# Altium footprint library PCB Lib.PcbLib: 31 footprints (part 2 of 2)
Each footprint in its own frame and in the unit in brackets; x right, y up, seen from the top. Pads: shape width x height; smd on the part's side, far side on the other; paste and mask are expansions set on the pad; w line width, h text height; cw(c..) or ccw(c..) is an arc to the next point about the centre after c.
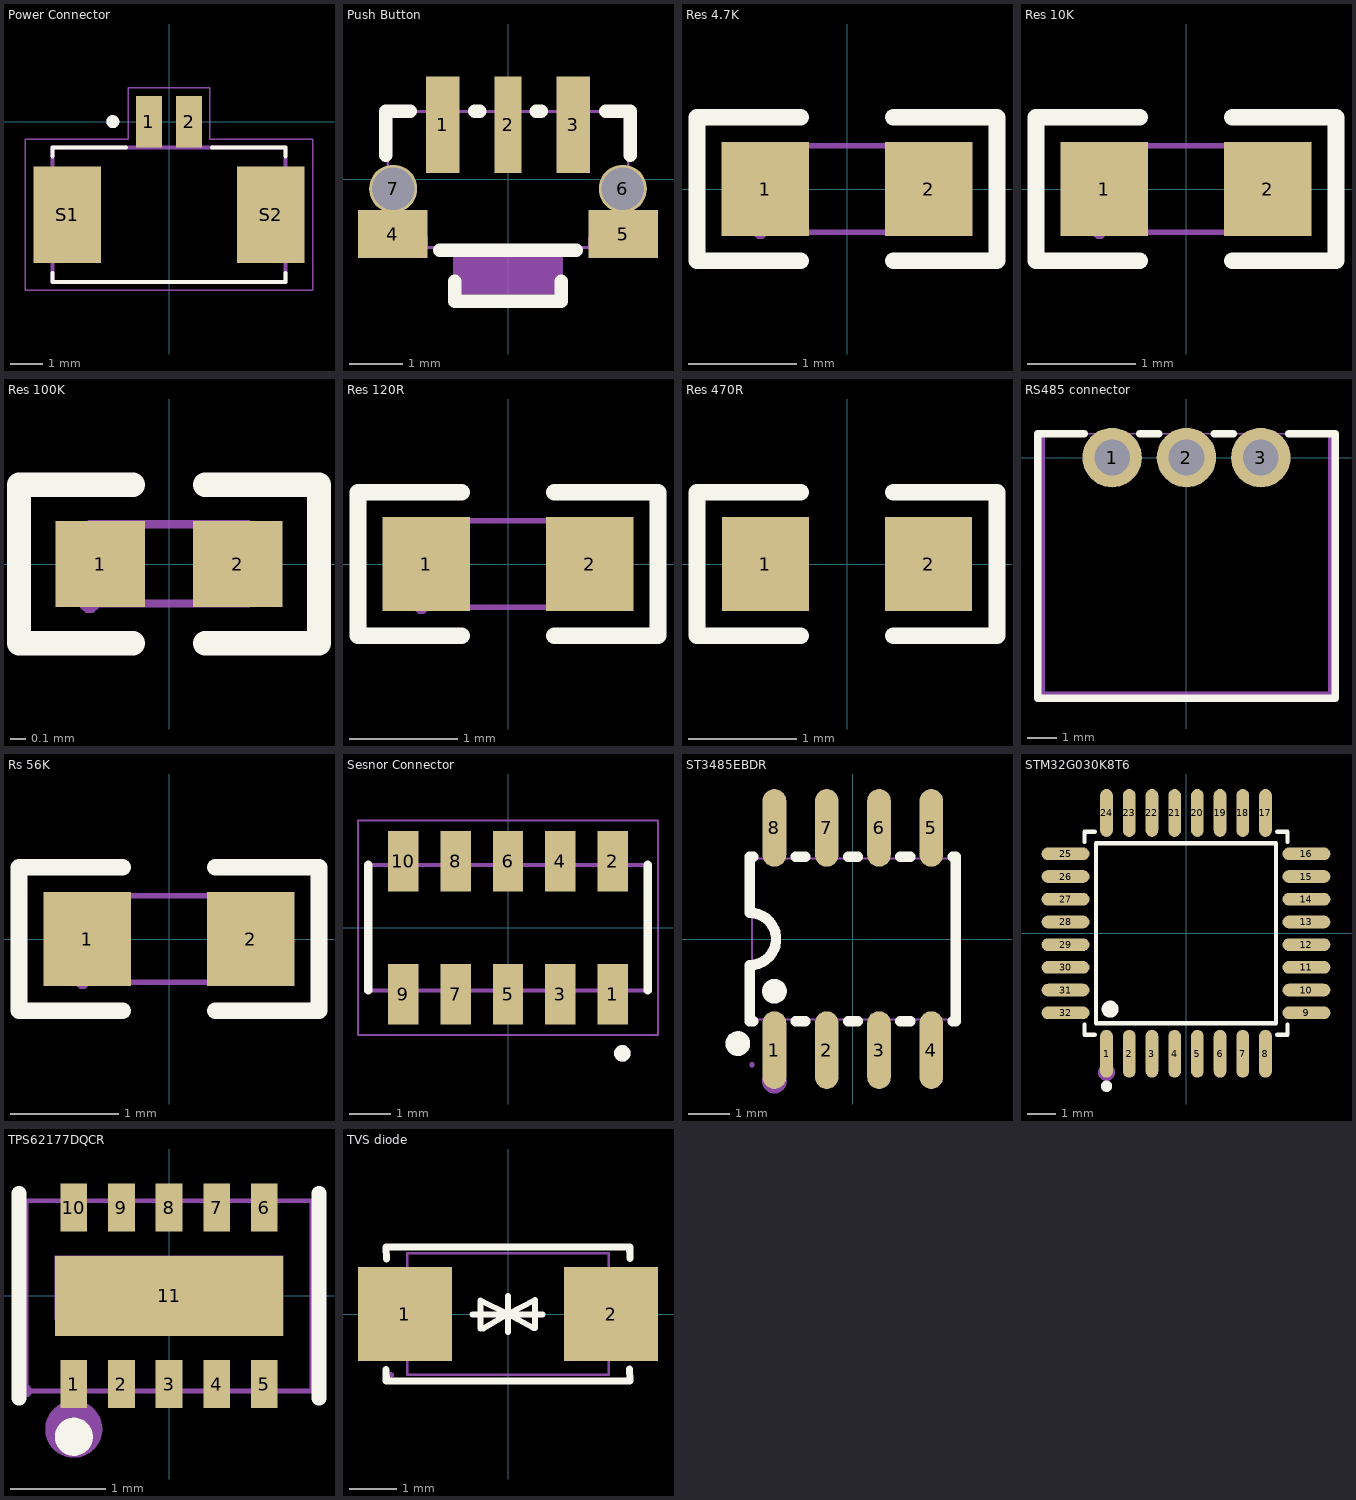
[diagram p1: the footprints below, top view; thin cyan lines are the x and y axes]

## PCBComponent_1 [mm]

## Power Connector [mm]
height 3.4
pads (4):
  rect 0.8x1.6 smd: 1(-0.625,0) 2(0.625,0)
  rect 2.1x3 smd: S1(-3.175,-2.9) S2(3.175,-2.9)
Top Overlay:
  circle w0.2: c-1.75,0 r0.1
  lines w0.127: -3.625,-4.72 -3.625,-5 3.625,-5 3.625,-4.72 ; -3.625,-1.08 -3.625,-0.8 -1.345,-0.8 ; 1.345,-0.8 3.625,-0.8 3.625,-1.08
Mechanical 13:
  circle w0.2: c-1.75,0 r0.1
  lines w0.127: -3.625,-5 -3.625,-0.8 3.625,-0.8 3.625,-5 -3.625,-5
Mechanical 15:
  lines w0.05: -4.475,-5.25 -4.475,-0.55 -1.275,-0.55 -1.275,1.05 1.275,1.05 1.275,-0.55 4.475,-0.55 4.475,-5.25 -4.475,-5.25
3D body "Power connector.STEP": height 3.4, standoff 0, extent -3.825,-4.674 3.825,0.526

## Push Button [mm]
pads (7):
  rect 0.625x1.8 smd paste-100 mask+0.051: 1(-1.225,1.025) 3(1.225,1.025)
  rect 0.5x1.8 smd paste-100 mask+0.051: 2(0,1.025)
  rect 1.3x0.9 smd paste-100 mask+0.051: 4(-2.159,-1.025) 5(2.159,-1.025)
  round 0.9 hole 0.8 paste-2539.97 mask+0.05: 6(2.15,-0.175) 7(-2.15,-0.175)
Top Overlay:
  lines w0.254: -2.286,0.453 -2.286,1.274 -1.831,1.274 ; -1.278,-1.325 -1.231,-1.325 1.231,-1.325 1.278,-1.325 ; -1,-1.906 -1,-2.282 1,-2.282 1,-1.906 ; -0.619,1.274 -0.531,1.274 ; 0.531,1.274 0.619,1.274 ; 1.831,1.274 2.286,1.274 2.286,0.453
Top Paste:
  drawing of 5 lines, arcs and shapes, not listed
Mechanical 6:
  region: -1,-1.35 -1,-2.15 1,-2.15 1,-1.35
Mechanical 15:
  region: -2.19,1.325 -2.19,1.35 -2.225,1.385 -2.275,1.385 -2.31,1.35 -2.31,1.325 -2.31,1.3 -2.275,1.265 -2.225,1.265 -2.19,1.3
  region: -1.525,1.325 -0.925,1.325 -0.925,0.125 -1.525,0.125
  region: 0.925,1.325 1.525,1.325 1.525,0.125 0.925,0.125
  region: -0.225,1.325 0.225,1.325 0.225,0.125 -0.225,0.125
  region: -2.25,-1.076 -1.5,-1.076 -1.5,-1.276 -2.25,-1.276
  region: 1.5,-1.076 2.25,-1.076 2.25,-1.276 1.5,-1.276
  region: -2.25,0.175 -2.05,0.175 -2.05,-0.525 -2.25,-0.525
  region: 2.05,0.175 2.25,0.175 2.25,-0.525 2.05,-0.525
  lines w0.051: -2.25,-1.276 -2.25,1.274 2.25,1.274 2.25,-1.276 1,-1.276 1,-2.126 -1,-2.126 -1,-1.276 -2.25,-1.276

## Res 4.7K [mm]
pads (2):
  rect 0.806x0.864 smd paste-100 mask+0.051: 1(-0.753,0) 2(0.753,0)
Top Overlay:
  lines w0.152: -0.426,-0.661 -1.385,-0.661 -1.385,0.661 -0.426,0.661 ; 0.426,-0.661 1.385,-0.661 1.385,0.661 0.426,0.661
Top Paste:
  region: -1.195,-0.45 -0.395,-0.45 -0.345,-0.4 -0.345,-0.172 -0.715,-0.172 -0.715,0.158 -0.345,0.158 -0.345,0.4 -0.395,0.45 -1.195,0.45 -1.245,0.4 -1.245,-0.4
  region: 1.195,0.45 0.395,0.45 0.345,0.4 0.345,0.172 0.715,0.172 0.715,-0.158 0.345,-0.158 0.345,-0.4 0.395,-0.45 1.195,-0.45 1.245,-0.4 1.245,0.4
Mechanical 15:
  region: 0.8,-0.4 0.8,0.4 0.5,0.4 0.5,-0.4
  region: -0.8,-0.4 -0.8,0.4 -0.5,0.4 -0.5,-0.4
  region: -0.74,-0.4 -0.74,-0.375 -0.775,-0.34 -0.825,-0.34 -0.86,-0.375 -0.86,-0.4 -0.86,-0.425 -0.825,-0.46 -0.775,-0.46 -0.74,-0.425
  lines w0.051: -0.8,-0.4 0.8,-0.4 0.8,0.4 -0.8,0.4 -0.8,-0.4
3D body "R603.STEP": height 0.45, standoff 0, extent -0.775,-0.4 0.825,0.4

## Res 10K [mm]
pads (2):
  rect 0.806x0.864 smd paste-100 mask+0.051: 1(-0.753,0) 2(0.753,0)
Top Overlay:
  lines w0.152: -0.426,-0.661 -1.385,-0.661 -1.385,0.661 -0.426,0.661 ; 0.426,-0.661 1.385,-0.661 1.385,0.661 0.426,0.661
Top Paste:
  region: 1.195,0.45 0.395,0.45 0.345,0.4 0.345,0.172 0.715,0.172 0.715,-0.158 0.345,-0.158 0.345,-0.4 0.395,-0.45 1.195,-0.45 1.245,-0.4 1.245,0.4
  region: -1.195,-0.45 -0.395,-0.45 -0.345,-0.4 -0.345,-0.172 -0.715,-0.172 -0.715,0.158 -0.345,0.158 -0.345,0.4 -0.395,0.45 -1.195,0.45 -1.245,0.4 -1.245,-0.4
Mechanical 15:
  region: -0.74,-0.4 -0.74,-0.375 -0.775,-0.34 -0.825,-0.34 -0.86,-0.375 -0.86,-0.4 -0.86,-0.425 -0.825,-0.46 -0.775,-0.46 -0.74,-0.425
  region: -0.8,-0.4 -0.8,0.4 -0.5,0.4 -0.5,-0.4
  region: 0.8,-0.4 0.8,0.4 0.5,0.4 0.5,-0.4
  lines w0.051: -0.8,-0.4 -0.8,0.4 0.8,0.4 0.8,-0.4 -0.8,-0.4
3D body "R603.STEP": height 0.45, standoff 0, extent -0.775,-0.4 0.825,0.4

## Res 100K [mm]
pads (2):
  rect 0.566x0.54 smd paste-100 mask+0.051: 1(-0.433,0) 2(0.433,0)
Top Overlay:
  lines w0.152: -0.226,-0.499 -0.944,-0.499 -0.944,0.499 -0.226,0.499 ; 0.226,-0.499 0.944,-0.499 0.944,0.499 0.226,0.499
Top Paste:
  region: -0.135,-0.23 -0.135,0.23 -0.175,0.27 -0.676,0.27 -0.716,0.23 -0.716,-0.23 -0.676,-0.27 -0.175,-0.27
  region: 0.135,-0.23 0.135,0.23 0.175,0.27 0.676,0.27 0.716,0.23 0.716,-0.23 0.676,-0.27 0.175,-0.27
Mechanical 15:
  region: -0.249,0.25 -0.249,-0.25 -0.499,-0.25 -0.499,0.25
  region: 0.251,-0.25 0.251,0.25 0.501,0.25 0.501,-0.25
  region: -0.44,-0.25 -0.441,-0.226 -0.476,-0.192 -0.524,-0.192 -0.559,-0.226 -0.56,-0.25 -0.559,-0.274 -0.524,-0.308 -0.476,-0.308 -0.441,-0.274
  lines w0.051: -0.5,-0.25 0.5,-0.25 0.5,0.25 -0.5,0.25 -0.5,-0.25
3D body "R402.STEP": height 0.35, standoff 0, extent -0.5,-0.25 0.5,0.25

## Res 120R [mm]
pads (2):
  rect 0.806x0.864 smd paste-100 mask+0.051: 1(-0.753,0) 2(0.753,0)
Top Overlay:
  lines w0.152: -0.426,-0.661 -1.385,-0.661 -1.385,0.661 -0.426,0.661 ; 0.426,-0.661 1.385,-0.661 1.385,0.661 0.426,0.661
Top Paste:
  region: 1.195,0.45 0.395,0.45 0.345,0.4 0.345,0.172 0.715,0.172 0.715,-0.158 0.345,-0.158 0.345,-0.4 0.395,-0.45 1.195,-0.45 1.245,-0.4 1.245,0.4
  region: -1.195,-0.45 -0.395,-0.45 -0.345,-0.4 -0.345,-0.172 -0.715,-0.172 -0.715,0.158 -0.345,0.158 -0.345,0.4 -0.395,0.45 -1.195,0.45 -1.245,0.4 -1.245,-0.4
Mechanical 15:
  region: -0.74,-0.4 -0.74,-0.375 -0.775,-0.34 -0.825,-0.34 -0.86,-0.375 -0.86,-0.4 -0.86,-0.425 -0.825,-0.46 -0.775,-0.46 -0.74,-0.425
  region: -0.8,-0.4 -0.8,0.4 -0.5,0.4 -0.5,-0.4
  region: 0.8,-0.4 0.8,0.4 0.5,0.4 0.5,-0.4
  lines w0.051: -0.8,-0.4 -0.8,0.4 0.8,0.4 0.8,-0.4 -0.8,-0.4
3D body "R603.STEP": height 0.45, standoff 0, extent -0.775,-0.4 0.825,0.4

## Res 470R [mm]
pads (2):
  rect 0.806x0.864 smd paste-100 mask+0.051: 1(-0.753,0) 2(0.753,0)
Top Overlay:
  lines w0.152: -0.426,-0.661 -1.385,-0.661 -1.385,0.661 -0.426,0.661 ; 0.426,-0.661 1.385,-0.661 1.385,0.661 0.426,0.661
Top Paste:
  region: 1.195,0.45 0.395,0.45 0.345,0.4 0.345,0.172 0.715,0.172 0.715,-0.158 0.345,-0.158 0.345,-0.4 0.395,-0.45 1.195,-0.45 1.245,-0.4 1.245,0.4
  region: -1.195,-0.45 -0.395,-0.45 -0.345,-0.4 -0.345,-0.172 -0.715,-0.172 -0.715,0.158 -0.345,0.158 -0.345,0.4 -0.395,0.45 -1.195,0.45 -1.245,0.4 -1.245,-0.4
3D body "R603.STEP": height 0.45, standoff 0, extent -0.775,-0.4 0.825,0.4

## RS485 connector [mm]
pads (3):
  round 2 hole 1.2: 1(-2.5,0) 2(0,0) 3(2.5,0)
Top Overlay:
  lines w0.254: -4.999,0.78 -4.999,-8.1 2.501,-8.1 5,-8.1 5,0.8 3.435,0.8 ; -5,0.8 -3.435,0.8 ; -1.565,0.8 -0.935,0.8 ; 0.935,0.8 1.565,0.8
Mechanical 6:
  region: -4.773,0.7 -4.773,-7.873 4.773,-7.873 4.773,0.7 4.773,0.753 4.847,0.827 4.953,0.827 5.027,0.753 5.027,0.7 5.027,-8 5.027,-8.025 5.008,-8.072 4.972,-8.108 4.925,-8.127 4.9,-8.127 -4.9,-8.127 -4.925,-8.127 -4.972,-8.108 -5.008,-8.072 -5.027,-8.025 -5.027,-8 -5.027,0.7 -5.027,0.753 -4.953,0.827 -4.847,0.827 -4.773,0.753
Mechanical 15:
  region: -4.94,-8.1 -4.94,-8.075 -4.975,-8.04 -5.025,-8.04 -5.06,-8.075 -5.06,-8.1 -5.06,-8.125 -5.025,-8.16 -4.975,-8.16 -4.94,-8.125
  region: -2.9,0.4 -2.1,0.4 -2.1,-0.4 -2.9,-0.4
  region: -0.4,0.4 0.4,0.4 0.4,-0.4 -0.4,-0.4
  region: 2.1,0.4 2.9,0.4 2.9,-0.4 2.1,-0.4
  lines w0.051: -5,-8.1 -5,0.8 5,0.8 5,-8.1 -5,-8.1
3D body "RS485 Connector.stp": height 3, standoff -4.85, extent -3.785,-9.862 3.835,0.362

## Rs 56K [mm]
pads (2):
  rect 0.806x0.864 smd paste-100 mask+0.051: 1(-0.753,0) 2(0.753,0)
Top Overlay:
  lines w0.152: -0.426,-0.661 -1.385,-0.661 -1.385,0.661 -0.426,0.661 ; 0.426,-0.661 1.385,-0.661 1.385,0.661 0.426,0.661
Top Paste:
  region: 1.195,0.45 0.395,0.45 0.345,0.4 0.345,0.172 0.715,0.172 0.715,-0.158 0.345,-0.158 0.345,-0.4 0.395,-0.45 1.195,-0.45 1.245,-0.4 1.245,0.4
  region: -1.195,-0.45 -0.395,-0.45 -0.345,-0.4 -0.345,-0.172 -0.715,-0.172 -0.715,0.158 -0.345,0.158 -0.345,0.4 -0.395,0.45 -1.195,0.45 -1.245,0.4 -1.245,-0.4
Mechanical 15:
  region: -0.74,-0.4 -0.74,-0.375 -0.775,-0.34 -0.825,-0.34 -0.86,-0.375 -0.86,-0.4 -0.86,-0.425 -0.825,-0.46 -0.775,-0.46 -0.74,-0.425
  region: -0.8,-0.4 -0.8,0.4 -0.5,0.4 -0.5,-0.4
  region: 0.8,-0.4 0.8,0.4 0.5,0.4 0.5,-0.4
  lines w0.051: -0.8,-0.4 -0.8,0.4 0.8,0.4 0.8,-0.4 -0.8,-0.4
3D body "R603.STEP": height 0.45, standoff 0, extent -0.775,-0.4 0.825,0.4

## Sesnor Connector [mm]
pads (10):
  rect 0.74x1.47 smd: 1(2.54,-1.615) 2(2.54,1.615) 3(1.27,-1.615) 4(1.27,1.615) 5(0,-1.615) 6(0,1.615) 7(-1.27,-1.615) 8(-1.27,1.615) 9(-2.54,-1.615) 10(-2.54,1.615)
Top Overlay:
  circle w0.2: c2.775,-3.05 r0.1
  lines w0.2: -3.39,-1.525 -3.39,1.525 ; 3.39,-1.525 3.39,1.525
Mechanical 13:
  circle w0.2: c2.775,-3.05 r0.1
  lines w0.1: -3.39,-1.525 -3.39,1.525 3.39,1.525 3.39,-1.525 -3.39,-1.525
Mechanical 15:
  lines w0.05: -3.64,-2.6 -3.64,2.6 3.64,2.6 3.64,-2.6 -3.64,-2.6
3D body "Sensor Connector .stp": height 2.29, standoff 0, extent -3.391,-2.134 3.391,2.184

## ST3485EBDR [mm]
pads (8):
  oval 0.574x1.888 smd: 1(-1.905,-2.699) 2(-0.635,-2.699) 3(0.635,-2.699) 4(1.905,-2.699) 5(1.905,2.699) 6(0.635,2.699) 7(-0.635,2.699) 8(-1.905,2.699)
Top Overlay:
  circle w0.3: c-1.905,-1.27 r0.15
  circle w0.3: c-2.794,-2.54 r0.15
  lines w0.254: -2.421,-2 -2.5,-2 -2.5,-0.635 ccw(c-2.5,0) -2.499,0.635 -2.5,2 -2.421,2 ; -1.389,-2 -1.151,-2 ; -1.389,2 -1.151,2 ; -0.119,-2 0.119,-2 ; -0.119,2 0.119,2 ; 1.151,-2 1.389,-2 ; 1.151,2 1.389,2 ; 2.421,-2 2.5,-2 2.5,2 2.421,2
Mechanical 6:
  circle w0.3: c-1.905,-3.45 r0.15
Mechanical 15:
  region: -2.39,-3.05 -2.39,-3.025 -2.425,-2.99 -2.475,-2.99 -2.51,-3.025 -2.51,-3.05 -2.51,-3.075 -2.475,-3.11 -2.425,-3.11 -2.39,-3.075
  region: -2.11,-3.05 -2.11,-2.54 -1.7,-2.54 -1.7,-3.05
  region: -2.11,-2.55 -2.11,-1.945 -1.7,-1.945 -1.7,-2.55
  region: -0.84,-3.05 -0.84,-2.54 -0.43,-2.54 -0.43,-3.05
  region: -0.84,-2.55 -0.84,-1.945 -0.43,-1.945 -0.43,-2.55
  region: 0.43,-3.05 0.43,-2.54 0.84,-2.54 0.84,-3.05
  region: 0.43,-2.55 0.43,-1.945 0.84,-1.945 0.84,-2.55
  region: 1.7,-3.05 1.7,-2.54 2.11,-2.54 2.11,-3.05
  region: 1.7,-2.55 1.7,-1.945 2.11,-1.945 2.11,-2.55
  region: -2.11,3.05 -2.11,2.54 -1.7,2.54 -1.7,3.05
  region: -2.11,2.55 -2.11,1.945 -1.7,1.945 -1.7,2.55
  region: -0.84,3.05 -0.84,2.54 -0.43,2.54 -0.43,3.05
  region: -0.84,2.55 -0.84,1.945 -0.43,1.945 -0.43,2.55
  region: 0.43,3.05 0.43,2.54 0.84,2.54 0.84,3.05
  region: 0.43,2.55 0.43,1.945 0.84,1.945 0.84,2.55
  region: 1.7,3.05 1.7,2.54 2.11,2.54 2.11,3.05
  region: 1.7,2.55 1.7,1.945 2.11,1.945 2.11,2.55
  lines w0.051: -2.45,-1.955 -2.45,1.955 2.45,1.955 2.45,-1.955 -2.45,-1.955
3D body "ST3485EBDR.STEP": height 1.75, standoff 0, extent -2.45,-3 2.45,3

## STM32G030K8T6 [mm]
pads (32):
  oval 0.448x1.684 smd paste+0 mask+0.051: 1(-2.8,-4.242) 2(-2,-4.242) 3(-1.2,-4.242) 4(-0.4,-4.242) 5(0.4,-4.242) 6(1.2,-4.242) 7(2,-4.242) 8(2.8,-4.242) 17(2.8,4.242) 18(2,4.242) 19(1.2,4.242) 20(0.4,4.242) 21(-0.4,4.242) 22(-1.2,4.242) 23(-2,4.242) 24(-2.8,4.242)
  oval 1.684x0.448 smd paste+0 mask+0.051: 9(4.242,-2.8) 10(4.242,-2) 11(4.242,-1.2) 12(4.242,-0.4) 13(4.242,0.4) 14(4.242,1.2) 15(4.242,2) 16(4.242,2.8) 25(-4.242,2.8) 26(-4.242,2) 27(-4.242,1.2) 28(-4.242,0.4) 29(-4.242,-0.4) 30(-4.242,-1.2) 31(-4.242,-2) 32(-4.242,-2.8)
Top Overlay:
  circle w0.2: c-2.8,-5.384 r0.1
  circle w0.3: c-2.671,-2.671 r0.15
  lines w0.152: -3.576,-3.214 -3.576,-3.576 -3.214,-3.576 ; -3.576,3.214 -3.576,3.576 -3.214,3.576 ; 3.214,-3.576 3.576,-3.576 3.576,-3.214 ; 3.214,3.576 3.576,3.576 3.576,3.214 ; -3.171,-3.171 -3.171,3.171 3.171,3.171 3.171,-3.171 -3.171,-3.171
Mechanical 15:
  circle w0.3: c-2.8,-4.9 r0.15
3D body "STM32G030K8T6.STEP": height 1.6, standoff 0, extent -4.5,-4.5 4.5,4.5

## TPS62177DQCR [mm]
pads (11):
  rect 0.28x0.505 smd paste+0 mask+0.051: 1(-1,-0.928) 2(-0.5,-0.928) 3(0,-0.928) 4(0.5,-0.928) 5(1,-0.928) 6(1,0.928) 7(0.5,0.928) 8(0,0.928) 9(-0.5,0.928) 10(-1,0.928)
  rect 2.4x0.84 smd paste+0 mask+0.051: 11(0,0)
Top Overlay:
  circle w0.2: c-1,-1.48 r0.1
  lines w0.152: -1.576,-1.076 -1.576,1.076 ; 1.576,-1.076 1.576,1.076
Mechanical 6:
  circle w0.3: c-1,-1.4 r0.15
Mechanical 15:
  region: -1.2,-0.252 -1.2,0.42 1.2,0.42 1.2,-0.42 -1.032,-0.42
  region: 0.875,1 0.875,0.7 1.125,0.7 1.125,1
  region: 0.375,1 0.375,0.7 0.625,0.7 0.625,1
  region: -0.125,1 -0.125,0.7 0.125,0.7 0.125,1
  region: -0.625,1 -0.625,0.7 -0.375,0.7 -0.375,1
  region: -1.125,1 -1.125,0.7 -0.875,0.7 -0.875,1
  region: 0.875,-1 0.875,-0.7 1.125,-0.7 1.125,-1
  region: 0.375,-1 0.375,-0.7 0.625,-0.7 0.625,-1
  region: -0.125,-1 -0.125,-0.7 0.125,-0.7 0.125,-1
  region: -0.625,-1 -0.625,-0.7 -0.375,-0.7 -0.375,-1
  region: -1.125,-1 -1.125,-0.7 -0.875,-0.7 -0.875,-1
  region: -1.44,-1 -1.44,-0.975 -1.475,-0.94 -1.525,-0.94 -1.56,-0.975 -1.56,-1 -1.56,-1.025 -1.525,-1.06 -1.475,-1.06 -1.44,-1.025
  lines w0.051: -1.5,-1 1.5,-1 1.5,1 -1.5,1 -1.5,-1
3D body "TPS62177DQCR.STEP": height 0.8, standoff 0, extent -1.499,-1 1.501,1

## TVS diode [mm]
pads (2):
  rect 2x2 smd: 1(-2.2,0) 2(2.2,0)
Top Overlay:
  lines w0.127: -0.758,-0.011 0.732,-0.011 ; -0.588,-0.311 -0.588,0.289 0,0 ; -0.528,-0.311 0,0 ; 0,-0.381 0,0 ; 0,0.381 0,0 ; 0.542,-0.301 0,0 ; 0.572,-0.301 0.572,0.299 0,0
  lines w0.152: -2.603,-1.187 -2.596,-1.426 2.596,-1.426 ; -2.6,1.415 -2.593,1.176 ; -2.596,1.426 2.596,1.426 2.603,1.187 ; 2.593,-1.176 2.6,-1.415
Mechanical 15:
  region: -1.35,0.725 -1.35,-0.725 -2.5,-0.725 -2.5,0.725
  region: 2.5,0.725 2.5,-0.725 1.35,-0.725 1.35,0.725
  region: -2.44,-1.3 -2.44,-1.275 -2.475,-1.241 -2.524,-1.241 -2.559,-1.275 -2.56,-1.3 -2.559,-1.324 -2.524,-1.359 -2.475,-1.359 -2.44,-1.324
  lines w0.051: -2.15,-1.3 2.15,-1.3 2.15,1.3 -2.15,1.3 -2.15,-1.3
3D body "SMAJ58CA.STEP": height 2.5, standoff 0, extent -2.621,-1.356 2.519,1.204